# Altium footprint library WH2004_98x60_standoff_15.PcbLib: 1 footprints
Each footprint in its own frame and in the unit in brackets; x right, y up, seen from the top. Pads: shape width x height; smd on the part's side, far side on the other; paste and mask are expansions set on the pad; w line width, h text height; cw(c..) or ccw(c..) is an arc to the next point about the centre after c.
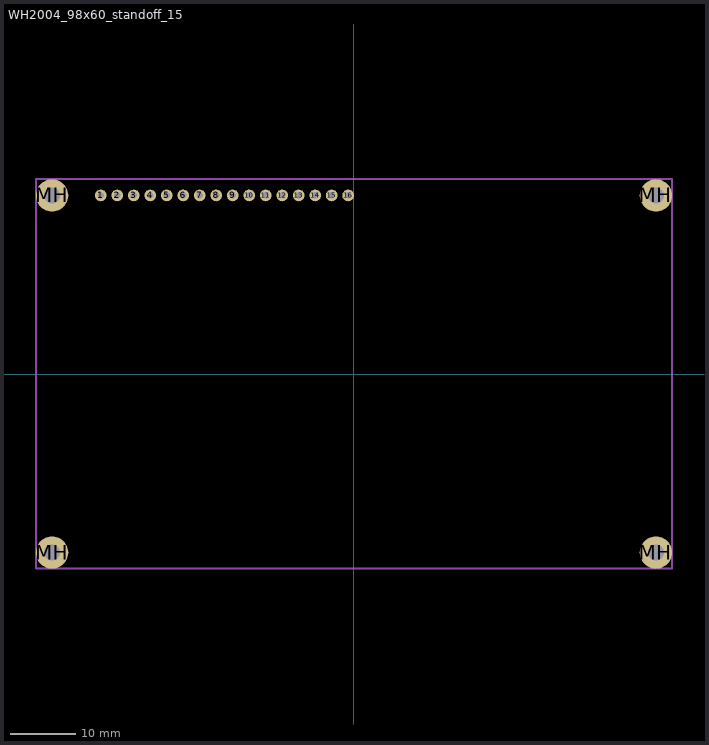
[diagram p0: the footprint, top view; thin cyan lines are the x and y axes]

## WH2004_98x60_standoff_15 [mm] "WH2004_98x60_standoff_15"
pads (20):
  round 1.8 hole 1: 1(-39,27.5) 2(-36.46,27.5) 3(-33.92,27.5) 4(-31.38,27.5) 5(-28.84,27.5) 6(-26.3,27.5) 7(-23.76,27.5) 8(-21.22,27.5) 9(-18.68,27.5) 10(-16.14,27.5) 11(-13.6,27.5) 12(-11.06,27.5) 13(-8.52,27.5) 14(-5.98,27.5) 15(-3.44,27.5) 16(-0.9,27.5)
  round 5 hole 2.5: MH(-46.5,-27.5) MH(-46.5,27.5) MH(46.5,-27.5) MH(46.5,27.5)
Mechanical 13:
  lines w0.3: -49,-29.972 -49,30 49,30 49,-29.972 -49,-29.972
  text ".Designator" at -2.6,-3.98 h2.5
3D body: height 25.6, standoff 12, extent -49,-30 49,30